# Altium footprint library INA129P.PcbLib: 1 footprints
Each footprint in its own frame and in the unit in brackets; x right, y up, seen from the top. Pads: shape width x height; smd on the part's side, far side on the other; paste and mask are expansions set on the pad; w line width, h text height; cw(c..) or ccw(c..) is an arc to the next point about the centre after c.
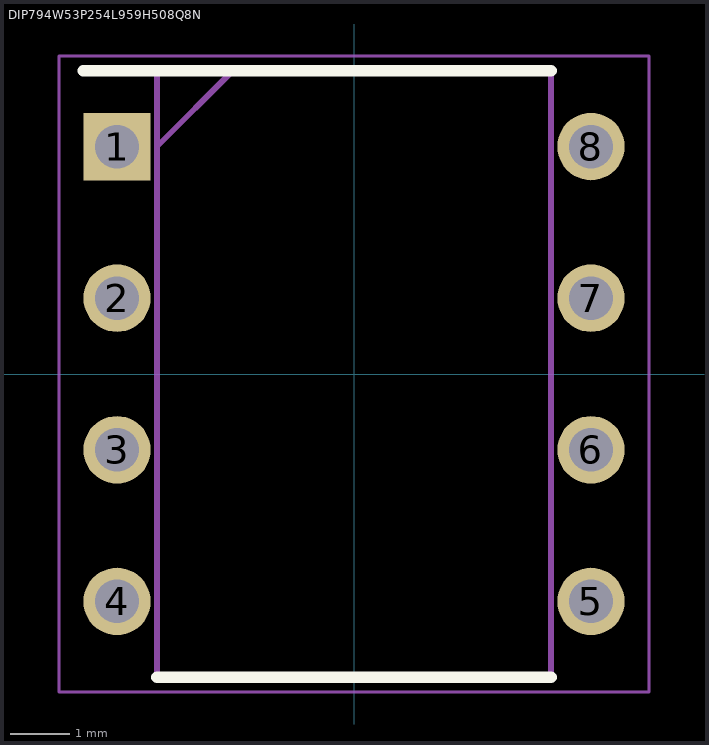
[diagram p0: the footprint, top view; thin cyan lines are the x and y axes]

## DIP794W53P254L959H508Q8N [mm]
pads (8):
  rect 1.13x1.13 / inner round 1.13 / far side rect 1.13x1.13 hole 0.73: 1(-3.97,3.81)
  round 1.13 hole 0.73: 2(-3.97,1.27) 3(-3.97,-1.27) 4(-3.97,-3.81) 5(3.97,-3.81) 6(3.97,-1.27) 7(3.97,1.27) 8(3.97,3.81)
Top Overlay:
  lines w0.2: -4.535,5.08 3.3,5.08 ; -3.3,-5.08 3.3,-5.08
Mechanical 15:
  lines w0.1: -3.3,3.81 -2.03,5.08 ; -3.3,-5.08 3.3,-5.08 3.3,5.08 -3.3,5.08 -3.3,-5.08
Mechanical 20:
  lines w0.05: -4.945,-5.33 4.945,-5.33 4.945,5.33 -4.945,5.33 -4.945,-5.33
3D body "INA129P.stp": height 5.8, standoff -4.65, extent -10,-3.376 10,3.376